# Altium footprint library MHSS1104.PcbLib: 1 footprints
Each footprint in its own frame and in the unit in brackets; x right, y up, seen from the top. Pads: shape width x height; smd on the part's side, far side on the other; paste and mask are expansions set on the pad; w line width, h text height; cw(c..) or ccw(c..) is an arc to the next point about the centre after c.
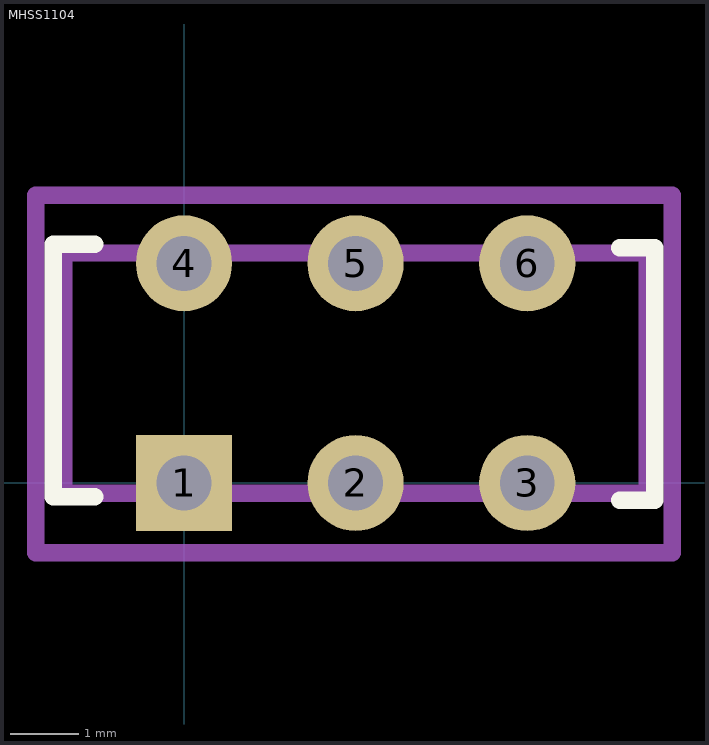
[diagram p0: the footprint, top view; thin cyan lines are the x and y axes]

## MHSS1104 [mm]
pads (6):
  rect 1.4x1.4 hole 0.8: 1(0,0)
  round 1.4 hole 0.8: 2(2.5,0) 3(5,0) 4(0,3.2) 5(2.5,3.2) 6(5,3.2)
Top Overlay:
  lines w0.254: -1.302,-0.203 -1.905,-0.203 -1.905,3.48 -1.302,3.48 ; 6.35,-0.254 6.858,-0.254 6.858,3.429 6.35,3.429
Mechanical 1:
  lines w0.254: -1.75,-0.15 6.75,-0.15 6.75,3.35 -1.75,3.35 -1.75,-0.15
  text ".Designator" at -1.397,0.889 h1.52
Mechanical 15:
  lines w0.254: -2.159,-1.016 7.112,-1.016 7.112,4.191 -2.159,4.191 -2.159,-1.016
3D body: height 5.5, standoff 0, extent 0.254,0.635 2.286,2.667
3D body: height 3.5, standoff 0, extent -1.778,-0.254 6.731,3.429